# Altium schematic symbol library MJE2955TG.SchLib: 1 symbol
Pins are listed as number, name and electrical type; pins without a type are passive.

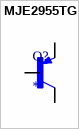
[diagram p0: symbol MJE2955TG]

## MJE2955TG
designator Q?
Bipolar (BJT) Transistor PNP 60 V 10 A 2MHz 75 W Through Hole TO-220; MF: ON Semiconductor; MP: MJE2955TG; Availability: In Stock; Check_prices: https://www.snapeda.com/parts/MJE2955TG/Onsemi/view-part/?ref=eda; Package: TO-220-3 ON; Price: None; SnapEDA_Link: https://www.snapeda.com/parts/MJE2955TG/Onsemi/view-part/?ref=snap; Purchase-URL: https://pricing.snapeda.com/search/part/MJE2955TG/?ref=eda; Value: *
footprint TO254P1010X470X2933-3
pins: 1 B, 2 C, 3 E